# Altium footprint library blackfin_pcblib.PcbLib: 59 footprints (part 3 of 4)
Each footprint in its own frame and in the unit in brackets; x right, y up, seen from the top. Pads: shape width x height; smd on the part's side, far side on the other; paste and mask are expansions set on the pad; w line width, h text height; cw(c..) or ccw(c..) is an arc to the next point about the centre after c.
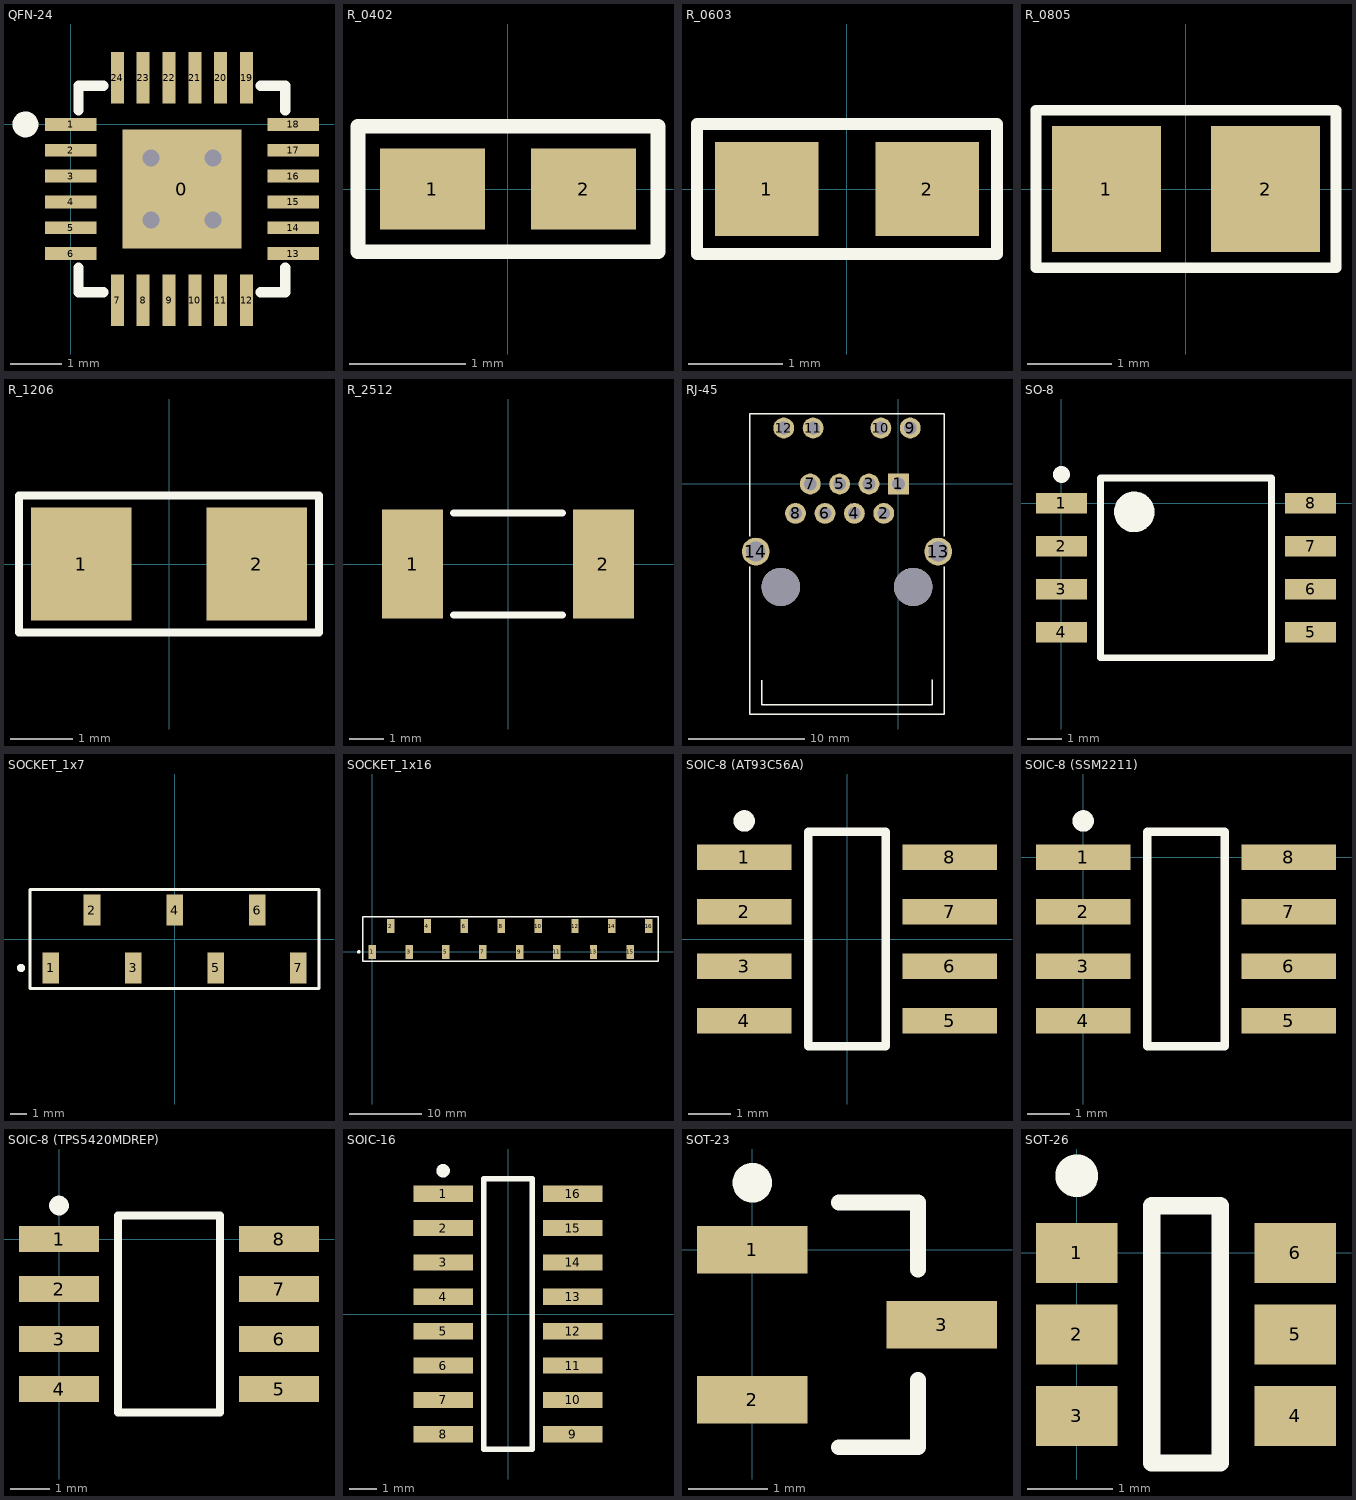
[diagram p2: the footprints below, top view; thin cyan lines are the x and y axes]

## QFN-24 [mm] "ADP5588"
height 1
pads (25):
  rect 2.3x2.3 smd: 0(2.152,-1.25)
  rect 1x0.25 smd: 1(0,0) 2(0,-0.5) 3(0,-1) 4(0,-1.5) 5(0,-2) 6(0,-2.5) 13(4.304,-2.5) 14(4.304,-2) 15(4.304,-1.5) 16(4.304,-1) 17(4.304,-0.5) 18(4.304,0)
  rect 0.25x1 smd: 7(0.902,-3.402) 8(1.402,-3.402) 9(1.902,-3.402) 10(2.402,-3.402) 11(2.902,-3.402) 12(3.402,-3.402) 19(3.402,0.902) 20(2.902,0.902) 21(2.402,0.902) 22(1.902,0.902) 23(1.402,0.902) 24(0.902,0.902)
via 2.752,-0.65 diameter 0.66 hole 0.33
via 1.552,-0.65 diameter 0.66 hole 0.33
via 1.552,-1.85 diameter 0.66 hole 0.33
via 2.752,-1.85 diameter 0.66 hole 0.33
Top Overlay:
  circle w0.25: c-0.875,0 r0.125
  lines w0.2: 0.152,-2.775 0.152,-3.25 0.627,-3.25 ; 0.152,0.275 0.152,0.75 0.627,0.75 ; 3.677,-3.25 4.152,-3.25 4.152,-2.775 ; 3.677,0.75 4.152,0.75 4.152,0.275

## R_0402 [mm]
pads (2):
  rect 0.9x0.7 smd: 1(-0.65,0) 2(0.65,0)
Top Overlay:
  lines w0.127: -1.29,-0.54 1.291,-0.54 1.291,0.54 -1.29,0.54 -1.29,-0.54

## R_0603 [mm]
pads (2):
  rect 1.1x1 smd: 1(-0.85,0) 2(0.85,0)
Top Overlay:
  lines w0.127: -1.59,-0.69 -1.59,0.69 1.59,0.69 1.59,-0.69 -1.59,-0.69

## R_0805 [mm]
pads (2):
  rect 1.3x1.5 smd: 1(-0.95,0) 2(0.95,0)
Top Overlay:
  lines w0.127: -1.79,-0.94 1.79,-0.94 1.79,0.94 -1.79,0.94 -1.79,-0.94

## R_1206 [mm]
pads (2):
  rect 1.6x1.8 smd: 1(-1.4,0) 2(1.4,0)
Top Overlay:
  lines w0.127: -2.39,-1.09 2.39,-1.09 2.39,1.09 -2.39,1.09 -2.39,-1.09

## R_2512 [mm]
pads (2):
  rect 1.8x3.2 smd: 1(-2.8,0) 2(2.8,0)
Top Overlay:
  lines w0.2: -1.6,-1.5 1.6,-1.5 ; -1.6,1.5 1.6,1.5

## RJ-45 [mm]
height 13.97
pads (16):
  rect 1.8x1.8 hole 1.1: 1(0,0)
  round 1.8 hole 1.1: 2(-1.27,-2.54) 3(-2.54,0) 4(-3.81,-2.54) 5(-5.08,0) 6(-6.35,-2.54) 7(-7.62,0) 8(-8.89,-2.54) 9(1.02,4.83) 10(-1.52,4.83) 11(-7.37,4.83) 12(-9.91,4.83)
  round 2.4 hole 1.71: 13(3.43,-5.84) 14(-12.32,-5.84)
  round 3.3 hole 3.3: ""(-10.16,-8.89) ""(1.27,-8.89)
Top Overlay:
  lines w0.127: -12.829,-7.163 -12.829,-19.868 3.939,-19.868 3.939,-7.163 ; -12.829,-4.496 -12.829,6.04 3.939,6.04 3.939,-4.496 ; -11.825,-16.955 -11.825,-19.08 2.935,-19.08 2.935,-16.905

## SO-8 [mm] "S25FL032P0XMFI010"
height 2.159
pads (8):
  rect 1.5x0.6 smd: 1(0,0) 2(0,-1.27) 3(0,-2.54) 4(0,-3.81) 5(7.35,-3.81) 6(7.35,-2.54) 7(7.35,-1.27) 8(7.35,0)
Top Overlay:
  circle w0.6: c2.15,-0.255 r0.3
  circle w0.25: c0,0.85 r0.125
  lines w0.2: 1.15,-4.555 6.2,-4.555 6.2,0.745 1.15,0.745 1.15,-4.555

## SOCKET_1x7 [mm] "Keypad_Connector"
height 7.37
pads (7):
  rect 1.02x1.905 smd: 1(-7.62,-1.777) 2(-5.08,1.777) 3(-2.54,-1.777) 4(0,1.777) 5(2.54,-1.777) 6(5.08,1.777) 7(7.62,-1.777)
Top Overlay:
  circle w0.25: c-9.447,-1.777 r0.125
  lines w0.2: -8.89,-3.047 -8.89,3.047 8.89,3.047 8.89,-3.047 -8.89,-3.047

## SOCKET_1x16 [mm] "LCD_Connector"
height 7.37
pads (16):
  rect 1.02x1.905 smd: 1(0,0) 2(2.54,3.555) 3(5.08,0) 4(7.62,3.555) 5(10.16,0) 6(12.7,3.555) 7(15.24,0) 8(17.78,3.555) 9(20.32,0) 10(22.86,3.555) 11(25.4,0) 12(27.94,3.555) 13(30.48,0) 14(33.02,3.555) 15(35.56,0) 16(38.1,3.555)
Top Overlay:
  circle w0.25: c-1.827,0 r0.125
  lines w0.2: -1.27,-1.27 -1.27,4.825 39.37,4.825 39.37,-1.27 -1.27,-1.27

## SOIC-8 (AT93C56A) [mm] "AT93C56A"
height 1.75
pads (8):
  rect 2.2x0.6 smd: 1(-2.4,1.905) 2(-2.4,0.635) 3(-2.4,-0.635) 4(-2.4,-1.905) 5(2.4,-1.905) 6(2.4,-0.635) 7(2.4,0.635) 8(2.4,1.905)
Top Overlay:
  circle w0.25: c-2.4,2.755 r0.125
  lines w0.2: -0.9,-2.5 0.9,-2.5 0.9,2.5 -0.9,2.5 -0.9,-2.5

## SOIC-8 (SSM2211) [mm] "SSM2211"
height 1.74
pads (8):
  rect 2.2x0.6 smd: 1(0,0) 2(0,-1.27) 3(0,-2.54) 4(0,-3.81) 5(4.8,-3.81) 6(4.8,-2.54) 7(4.8,-1.27) 8(4.8,0)
Top Overlay:
  circle w0.25: c0,0.85 r0.125
  lines w0.2: 1.5,-4.405 3.3,-4.405 3.3,0.595 1.5,0.595 1.5,-4.405

## SOIC-8 (TPS5420MDREP) [mil] "TPS5420MDREP"
pads (8):
  rect 80x26 smd: 1(0,0) 2(0,-50) 3(0,-100) 4(0,-150) 5(220,-150) 6(220,-100) 7(220,-50) 8(220,0)
Top Overlay:
  circle w9.84: c0,33.46 r4.92
  lines w7.87: 59,-173.43 59,23.43 161,23.43 161,-173.43 59,-173.43

## SOIC-16 [mm]
height 1.75
pads (16):
  rect 2.2x0.6 smd: 1(-2.4,4.445) 2(-2.4,3.175) 3(-2.4,1.905) 4(-2.4,0.635) 5(-2.4,-0.635) 6(-2.4,-1.905) 7(-2.4,-3.175) 8(-2.4,-4.445) 9(2.4,-4.445) 10(2.4,-3.175) 11(2.4,-1.905) 12(2.4,-0.635) 13(2.4,0.635) 14(2.4,1.905) 15(2.4,3.175) 16(2.4,4.445)
Top Overlay:
  circle w0.25: c-2.4,5.295 r0.125
  lines w0.2: -0.9,-5 -0.9,5 0.9,5 0.9,-5 -0.9,-5

## SOT-23 [mm] "AME8800AEETZ"
height 1.55
pads (3):
  rect 1.4x0.6 smd: 1(0,0) 2(0,-1.9) 3(2.4,-0.95)
Top Overlay:
  circle w0.25: c0,0.85 r0.125
  lines w0.2: 1.1,-2.5 2.1,-2.5 2.1,-1.65 ; 1.1,0.6 2.1,0.6 2.1,-0.25

## SOT-26 [mm] "CMXSH-3"
height 1.3
pads (6):
  rect 0.95x0.7 smd: 1(0,0) 2(0,-0.95) 3(0,-1.9) 4(2.55,-1.9) 5(2.55,-0.95) 6(2.55,0)
Top Overlay:
  circle w0.25: c0,0.9 r0.125
  lines w0.2: 0.875,-2.45 0.875,0.55 1.675,0.55 1.675,-2.45 0.875,-2.45